# EAGLE library part ACCEL_LIS352AR (library custom)
Digikey # MMA7331LCT-ND
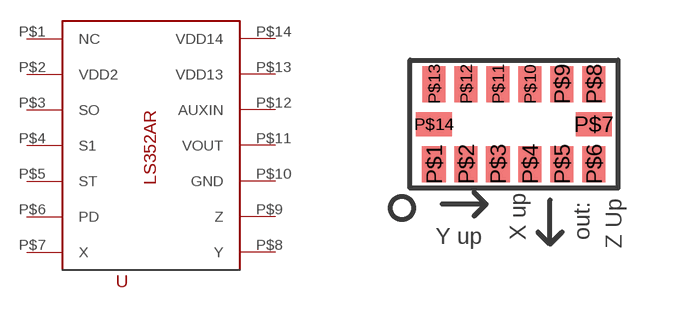
[diagram p33: symbol with the pads of LGA-14; footprint LGA-14]

Designator prefix -

## ACCEL_LIS352AR  [LGA-14]
P$1  NC
P$2  VDD2
P$3  SO
P$4  S1
P$5  ST
P$6  PD
P$7  X
P$8  Y
P$9  Z
P$10  GND
P$11  VOUT
P$12  AUXIN
P$13  VDD13
P$14  VDD14

## Footprint LGA-14 (pad centres in mm)
smd 0.6 x 0.9: P$1 -2,-1; P$3 -0.4,-1
smd 0.584 x 0.9: P$2 -1.2,-1; P$4 0.4,-1; P$5 1.2,-1; P$6 2,-1; P$8 2,1; P$9 1.2,1; P$10 0.4,1; P$11 -0.4,1; P$12 -1.2,1; P$13 -2,1
smd 0.9 x 0.6: P$7 2,0; P$14 -2,0